# EAGLE library part SMD-20 (library boogie)
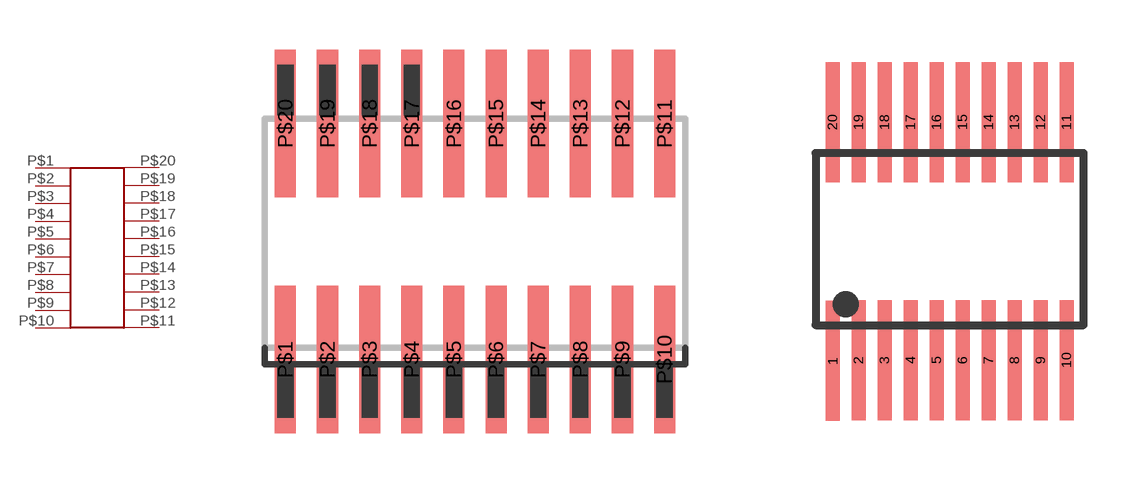
[diagram p1: symbol with the pads of SO-20NMW; footprints SO-20NMW, TSSOP-20NM]

Designator prefix -

## SMD-20SOIC  [SO-20NMW]
P$1  P$1
P$2  P$2
P$3  P$3
P$4  P$4
P$5  P$5
P$6  P$6
P$7  P$7
P$8  P$8
P$9  P$9
P$10  P$10
P$11  P$11
P$12  P$12
P$13  P$13
P$14  P$14
P$15  P$15
P$16  P$16
P$17  P$17
P$18  P$18
P$19  P$19
P$20  P$20

## SMD-20TSSOP  [TSSOP-20NM]
1  P$1
2  P$2
3  P$3
4  P$4
5  P$5
6  P$6
7  P$7
8  P$8
9  P$9
10  P$10
11  P$11
12  P$12
13  P$13
14  P$14
15  P$15
16  P$16
17  P$17
18  P$18
19  P$19
20  P$20

## Footprint SO-20NMW (pad centres in mm)
smd 0.635 x 4.445: P$1 -4.318,-3.683; P$2 -3.048,-3.683; P$3 -1.778,-3.683; P$4 -0.508,-3.683; P$5 0.762,-3.683; P$6 2.032,-3.683; P$7 3.302,-3.683; P$8 4.572,-3.683; P$9 5.842,-3.683; P$10 7.112,-3.683; P$11 7.112,3.429; P$12 5.842,3.429; P$13 4.572,3.429; P$14 3.302,3.429; P$15 2.032,3.429; P$16 0.762,3.429; P$17 -0.508,3.429; P$18 -1.778,3.429; P$19 -3.048,3.429; P$20 -4.318,3.429

## Footprint TSSOP-20NM (pad centres in mm)
smd 0.35 x 3: 1 -1.745,-3.193; 2 -1.105,-3.169; 3 -0.455,-3.169; 4 0.195,-3.169; 5 0.845,-3.169; 6 1.495,-3.169; 7 2.145,-3.169; 8 2.795,-3.169; 9 3.445,-3.169; 10 4.095,-3.169; 11 4.095,2.781; 12 3.445,2.781; 13 2.795,2.781; 14 2.145,2.781; 15 1.495,2.781; 16 0.845,2.781; 17 0.195,2.781; 18 -0.455,2.781; 19 -1.105,2.781; 20 -1.755,2.781